# EAGLE library part 74F579PC (library Fairchild_By_element14_Batch_1)
8-Bit Bidirectional Binary Counter
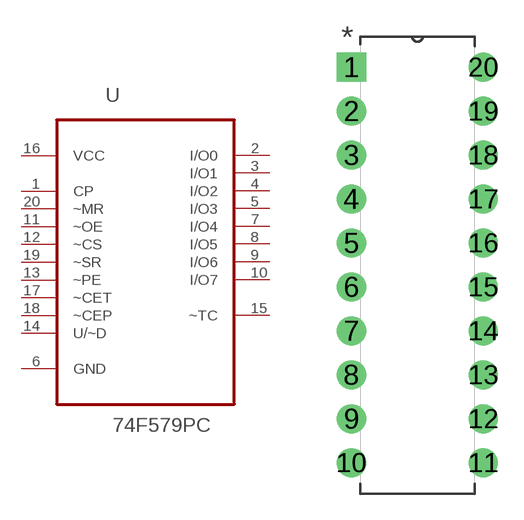
[diagram p63: symbol with the pads of DIP254P762X508-20; footprint DIP254P762X508-20]

Designator prefix U

## 74F579PC (MPN: 74F579PC; OC_FARNELL: -; OC_NEWARK: 78K6266; PACKAGE: PDIP-20; SUPPLIER: FAIRCHILD SEMICONDUCTOR)  [DIP254P762X508-20]
1  CP  in
2  I/O0
3  I/O1
4  I/O2
5  I/O3
6  GND  pas
7  I/O4
8  I/O5
9  I/O6
10  I/O7
11  ~OE  in
12  ~CS  in
13  ~PE  in
14  U/~D  in
15  ~TC  out
16  VCC  pwr
17  ~CET  in
18  ~CEP  in
19  ~SR  in
20  ~MR  pwr

## Footprint DIP254P762X508-20 (pad centres in mm)
drill 1.118 square: 1 -7.62,22.86
drill 1.118: 2 -7.62,20.32; 3 -7.62,17.78; 4 -7.62,15.24; 5 -7.62,12.7; 6 -7.62,10.16; 7 -7.62,7.62; 8 -7.62,5.08; 9 -7.62,2.54; 10 -7.62,0; 11 0,0; 12 0,2.54; 13 0,5.08; 14 0,7.62; 15 0,10.16; 16 0,12.7; 17 0,15.24; 18 0,17.78; 19 0,20.32; 20 0,22.86